# Altium footprint library C_TANT_B(3528).PcbLib: 1 footprints
Each footprint in its own frame and in the unit in brackets; x right, y up, seen from the top. Pads: shape width x height; smd on the part's side, far side on the other; paste and mask are expansions set on the pad; w line width, h text height; cw(c..) or ccw(c..) is an arc to the next point about the centre after c.
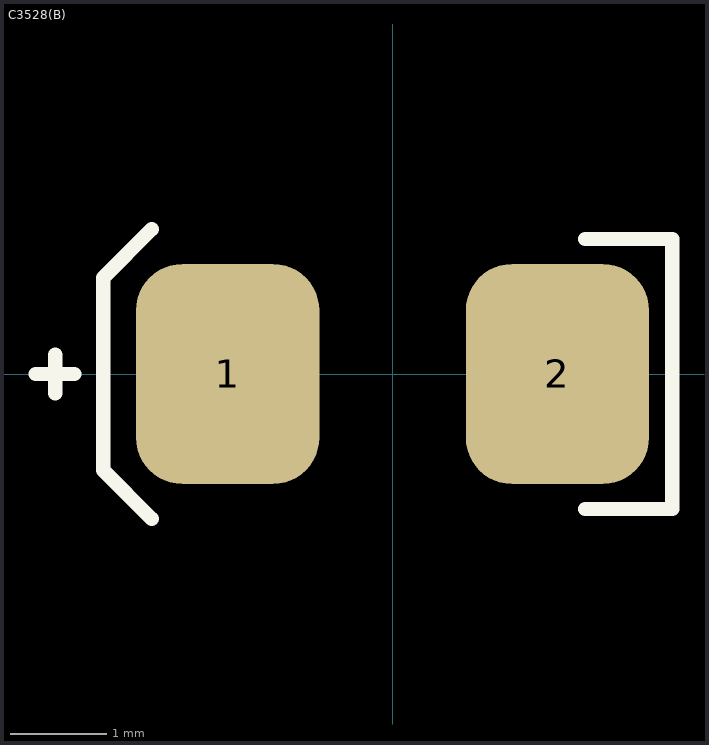
[diagram p0: the footprint, top view; thin cyan lines are the x and y axes]

## C3528(B) [mm]
pads (2):
  rrect50% 1.9x2.28 smd: 1(-1.71,0) 2(1.71,0)
Top Overlay:
  lines w0.15: -3.7,0 -3.3,0 ; -3.5,-0.2 -3.5,0.2 ; -2.5,-1.5 -3,-1 -3,1 -2.5,1.5 ; 2,-1.4 2.9,-1.4 2.9,1.4 2,1.4
3D body "TANTALUM_B.STEP": height 1.91, standoff 0, extent -1.77,-1.4 1.77,1.4